# Altium footprint library IDC_14PINS_SideEntry_THT.PcbLib: 1 footprints
Each footprint in its own frame and in the unit in brackets; x right, y up, seen from the top. Pads: shape width x height; smd on the part's side, far side on the other; paste and mask are expansions set on the pad; w line width, h text height; cw(c..) or ccw(c..) is an arc to the next point about the centre after c.
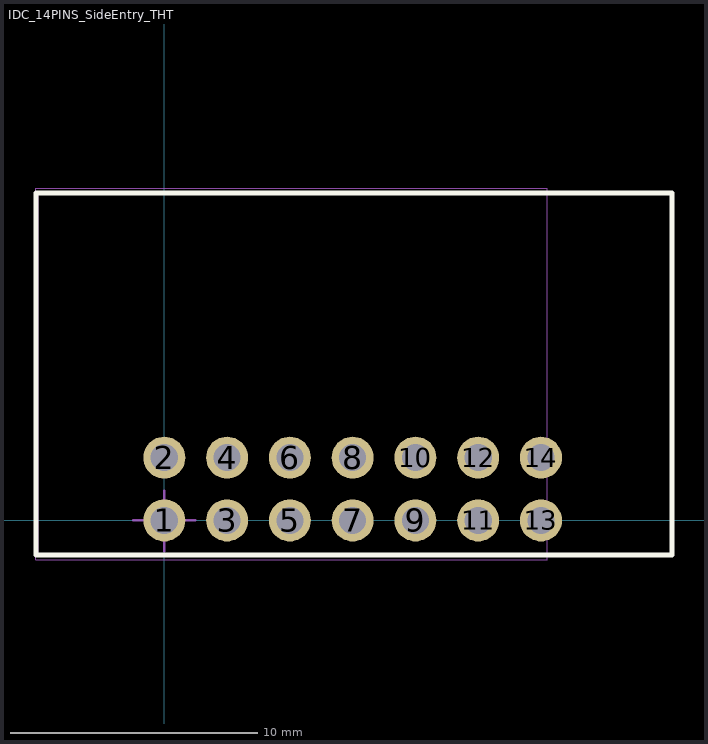
[diagram p0: the footprint, top view; thin cyan lines are the x and y axes]

## IDC_14PINS_SideEntry_THT [mm] "3 Position Terminal Block Header, Male Pins, 3.5mm Pitch,11.9x9.2mm Body, 90°, Right Angle, THT"
height 7.4
pads (14):
  round 1.7 hole 1.1: 1(0,0) 2(0,2.54) 3(2.54,0) 4(2.54,2.54) 5(5.08,0) 6(5.08,2.54) 7(7.62,0) 8(7.62,2.54) 9(10.16,0) 10(10.16,2.54) 11(12.7,0) 12(12.7,2.54) 13(15.24,0) 14(15.24,2.54)
Top Overlay:
  lines w0.2: -5.2,-1.4 -5.2,13.25 20.55,13.25 20.55,-1.4 -5.2,-1.4
Mechanical 13:
  lines w0.1: -5.15,-1.4 -5.15,13.25 20.55,13.25 20.55,-1.4 -5.15,-1.4
Mechanical 15 (Mech15):
  lines w0.05: -5.2,-1.6 -5.2,13.45 15.5,13.45 15.5,-1.6 -5.2,-1.6
  lines w0.1: -1.25,0 0,0 ; 0,-1.25 0,0 ; 0,1.2 0,0 ; 1.25,0 0,0
3D body "3020-14-0200-00 3D.STEP": height 9, standoff -3.47, extent -5.05,-0.25 20.35,13.25